# EAGLE library part ELF-511SYGWA (library Dimmer)
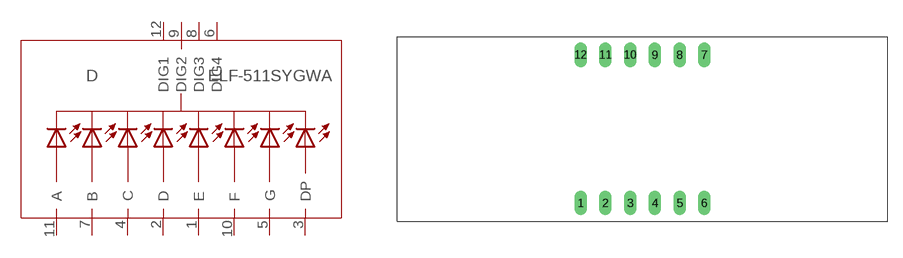
[diagram p1: symbol with the pads of 4_DIGIT_LED; footprint 4_DIGIT_LED]

Designator prefix D

## ELF-511SYGWA  [4_DIGIT_LED]
1  E  pas
2  D  pas
3  DP  pas
4  C  pas
5  G  pas
6  DIG4  pas
7  B  pas
8  DIG3  pas
9  DIG2  pas
10  F  pas
11  A  pas
12  DIG1  pas

## Footprint 4_DIGIT_LED (pad centres in mm)
drill 0.75 long: 1 -6.35,-7.62; 2 -3.81,-7.62; 3 -1.27,-7.62; 4 1.27,-7.62; 5 3.81,-7.62; 6 6.35,-7.62; 7 6.35,7.62; 8 3.81,7.62; 9 1.27,7.62; 10 -1.27,7.62; 11 -3.81,7.62; 12 -6.35,7.62